# EAGLE library part LTC1702A (library zz-m-pad-2.1)
Linear Tech's LTC1702A Dual 550kHz Synchronous 2-Phase Switching Regulator Controller Description: The LTC®1702A is a dual switching regulator controller optimized for high efficiency with low input voltages. It includes two complete, on-chip, independent switching regulator controllers each designed to drive a pair of external Nchannel MOSFETs in a voltage mode feedback, synchronous buck configuration. The LTC1702A uses a constant-frequency, true PWM design switching at 550kHz, minimizing external component size and cost and maximizing load transient performance. The synchronous buck architecture automatically shifts to discontinuous and then to Burst Mode® operation as the output load decreases, ensuring maximum efficiency over a wide range of load currents. The LTC1702A features an onboard reference trimmed to 0.5% and can provide better than 1% regulation at the converter outputs. Open-drain logic outputs indicate whether either output has risen to within 5% of the final output voltage and an optional latching FAULT mode protects the load if the output rises 15% above the intended voltage. Each channel can be enabled independently; with both channels disabled, the LTC1702A shuts down and supply current drops below 100mA. Features: Pin Compatible with the LTC1702 with Improved Current Limit Control Two Sides Run Out-of-Phase to Minimize CIN No External Current Sense Resistors Excellent Output Regulation: 1% Total Output Accuracy Two Independent Controllers in One Package All N-Channel External MOSFET Architecture 550kHz Switching Frequency Minimizes External Component Size 1A to 25A Output Current per Channel High Efficiency over Wide Load Current Range Less Than 100mA Shutdown Current Small 24-Pin Narrow SSOP Package Applications: Microprocessor, DSP Core and I/O Supplies Multiple Logic Supply Generator Distributed Power Applications High Efficiency Power Conversion Please send any comments to: messi@users.sourceforge.net
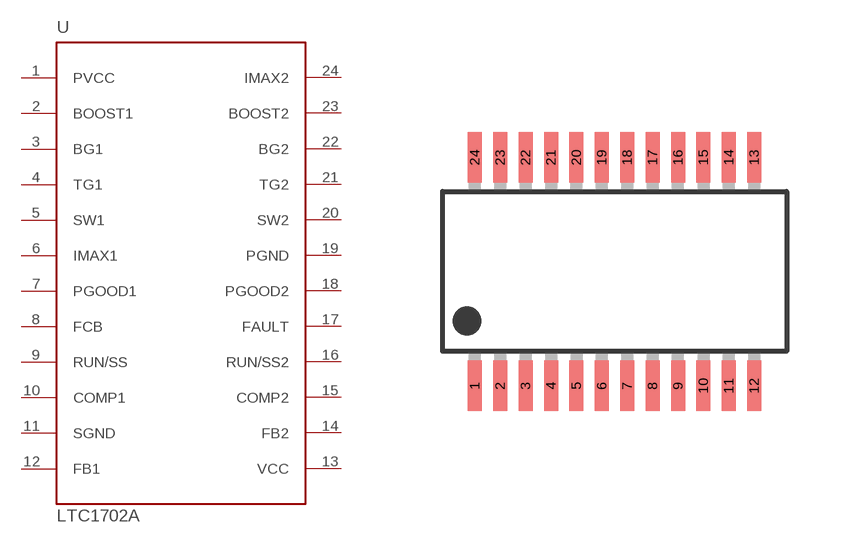
[diagram p58: symbol with the pads of SSOP24-N; footprint SSOP24-N]

Designator prefix U

## LTC1702A  [SSOP24-N]
1  PVCC  pwr
2  BOOST1  in
3  BG1  out
4  TG1  out
5  SW1  out
6  IMAX1  in
7  PGOOD1  out
8  FCB  in
9  RUN/SS  in
10  COMP1  in
11  SGND  pwr
12  FB1  in
13  VCC  pwr
14  FB2  in
15  COMP2  in
16  RUN/SS2  in
17  FAULT  out
18  PGOOD2  out
19  PGND  pwr
20  SW2  out
21  TG2  out
22  BG2  out
23  BOOST2  in
24  IMAX2  in

## Footprint SSOP24-N (pad centres in mm)
SSOP24 Narrow E.g.: LTC1702
smd 0.35 x 1.27: 1 -3.493,-2.857; 2 -2.857,-2.857; 3 -2.223,-2.857; 4 -1.587,-2.857; 5 -0.953,-2.857; 6 -0.318,-2.857; 7 0.318,-2.857; 8 0.953,-2.857; 9 1.587,-2.857; 10 2.223,-2.857; 11 2.857,-2.857; 12 3.493,-2.857; 13 3.493,2.857; 14 2.857,2.857; 15 2.223,2.857; 16 1.587,2.857; 17 0.953,2.857; 18 0.318,2.857; 19 -0.318,2.857; 20 -0.953,2.857; 21 -1.587,2.857; 22 -2.223,2.857; 23 -2.857,2.857; 24 -3.493,2.857